# Altium integrated library UART Converter use MCP2200.IntLib: 20 symbols
Pins are listed as number, name and electrical type; pins without a type are passive.

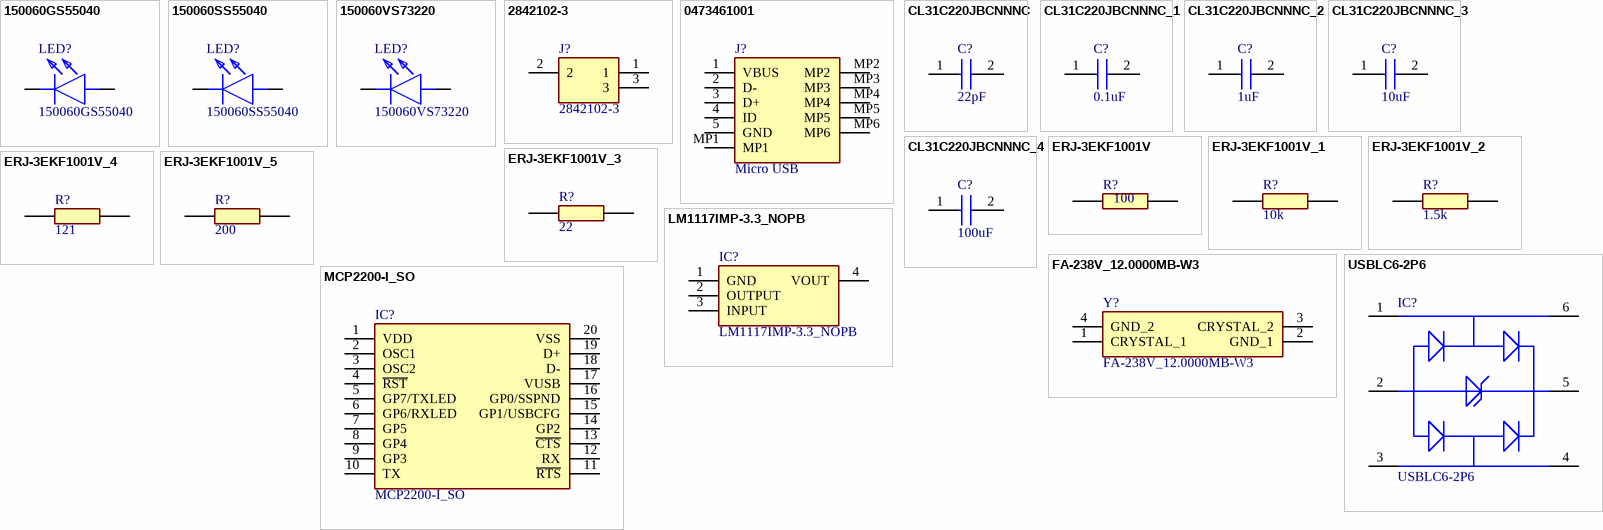
[diagram p0: symbols 150060GS55040 to USBLC6-2P6]

## 150060GS55040
designator LED?
LED; Manufacturer_Name: Wurth Elektronik; Datasheet Link: https://katalog.we-online.de/led/datasheet/150060GS55040.pdf; Height: 0.5mm; Manufacturer_Part_Number: 150060GS55040; Mouser Part Number: 710-150060GS55040; Mouser Price/Stock: https://www.mouser.co.uk/ProductDetail/Wurth-Elektronik/150060GS55040?qs=fAHHVMwC%252Bbhr5Aln2oA6Nw%3D%3D
footprint LEDC1608X50N
pins: 1 K, 2 A

## 150060SS55040
designator LED?
LED; Manufacturer_Name: Wurth Elektronik; Datasheet Link: https://www.mouser.com/datasheet/2/445/150060SS55040-1714139.pdf; Manufacturer_Part_Number: 150060SS55040; Mouser Part Number: 710-150060SS55040; Mouser Price/Stock: https://www.mouser.co.uk/ProductDetail/Wurth-Elektronik/150060SS55040?qs=8Aam6%252B7C6HG0AGgMR5PhFg%3D%3D
footprint 150060SS55040
footprint LEDC1608X50N
pins: 1 K, 2 A

## 150060VS73220
designator LED?
LED; Manufacturer_Name: Wurth Elektronik; Datasheet Link: https://componentsearchengine.com/Datasheets/2/150060VS73220.pdf; Manufacturer_Part_Number: 150060VS73220; Mouser Part Number: 710-150060VS73220; Mouser Price/Stock: https://www.mouser.co.uk/ProductDetail/Wurth-Elektronik/150060VS73220?qs=8Aam6%252B7C6HEF3HOqTkc72A%3D%3D
footprint 150060SS55040
footprint LEDC1608X50N
pins: 1 K, 2 A

## 2842102-3
designator J?
Connector; Manufacturer_Name: TE Connectivity; Datasheet Link: https://componentsearchengine.com/Datasheets/2/2842102-3.pdf; Height: 7.85mm; Manufacturer_Part_Number: 2842102-3; Mouser Part Number: 571-2842102-3; Mouser Price/Stock: https://www.mouser.co.uk/ProductDetail/TE-Connectivity/2842102-3?qs=Cb2nCFKsA8rGL40bBL%2F7Zw%3D%3D; Arrow Part Number: 2842102-3; Arrow Price/Stock: null?region=nac
footprint 28421023
pins: 1, 2, 3

## 0473461001
designator J?, comment Micro USB
Connector; Manufacturer_Name: Molex; Manufacturer_Part_Number: 0473461001; Datasheet Link: https://componentsearchengine.com/Datasheets/1/0473461001.pdf; Height: 2.45mm; Mouser Part Number: N/A; Mouser Price/Stock: https://www.mouser.co.uk/ProductDetail/Molex/0473461001?qs=2bnkQPT%252BPafTZgGVt%2FOGfA%3D%3D; Arrow Part Number: 0473461001; Arrow Price/Stock: https://www.arrow.com/en/products/0473461001/molex?region=nac
footprint 0473461001
pins: 1 VBUS, 2 D-, 3 D+, 4 ID, 5 GND, MP1, MP2, MP3, MP4, MP5, MP6

## CL31C220JBCNNNC
designator C?, comment 22pF
Capacitor; Manufacturer_Name: SAMSUNG; Manufacturer_Part_Number: CL31C220JBCNNNC; Datasheet Link: http://product.samsungsem.com/mlcc/CL31C220JBCNNN.do; Height: 1mm; Mouser Part Number: 187-CL31C220JBCNNNC; Mouser Price/Stock: https://www.mouser.co.uk/ProductDetail/Samsung-Electro-Mechanics/CL31C220JBCNNNC?qs=349EhDEZ59op%2FLhphPFLcA%3D%3D; Arrow Part Number: CL31C220JBCNNNC; Arrow Price/Stock: https://www.arrow.com/en/products/cl31c220jbcnnnc/samsung-electro-mechanics?region=nac
footprint CAPC3216X100N
pins: 1, 2

## CL31C220JBCNNNC_1
designator C?, comment 0.1uF
Capacitor; Manufacturer_Name: SAMSUNG; Manufacturer_Part_Number: CL31C220JBCNNNC; Datasheet Link: http://product.samsungsem.com/mlcc/CL31C220JBCNNN.do; Height: 1mm; Mouser Part Number: 187-CL31C220JBCNNNC; Mouser Price/Stock: https://www.mouser.co.uk/ProductDetail/Samsung-Electro-Mechanics/CL31C220JBCNNNC?qs=349EhDEZ59op%2FLhphPFLcA%3D%3D; Arrow Part Number: CL31C220JBCNNNC; Arrow Price/Stock: https://www.arrow.com/en/products/cl31c220jbcnnnc/samsung-electro-mechanics?region=nac
footprint CAPC3216X100N
pins: 1, 2

## CL31C220JBCNNNC_2
designator C?, comment 1uF
Capacitor; Manufacturer_Name: SAMSUNG; Manufacturer_Part_Number: CL31C220JBCNNNC; Datasheet Link: http://product.samsungsem.com/mlcc/CL31C220JBCNNN.do; Height: 1mm; Mouser Part Number: 187-CL31C220JBCNNNC; Mouser Price/Stock: https://www.mouser.co.uk/ProductDetail/Samsung-Electro-Mechanics/CL31C220JBCNNNC?qs=349EhDEZ59op%2FLhphPFLcA%3D%3D; Arrow Part Number: CL31C220JBCNNNC; Arrow Price/Stock: https://www.arrow.com/en/products/cl31c220jbcnnnc/samsung-electro-mechanics?region=nac
footprint CAPC3216X100N
pins: 1, 2

## CL31C220JBCNNNC_3
designator C?, comment 10uF
Capacitor; Manufacturer_Name: SAMSUNG; Manufacturer_Part_Number: CL31C220JBCNNNC; Datasheet Link: http://product.samsungsem.com/mlcc/CL31C220JBCNNN.do; Height: 1mm; Mouser Part Number: 187-CL31C220JBCNNNC; Mouser Price/Stock: https://www.mouser.co.uk/ProductDetail/Samsung-Electro-Mechanics/CL31C220JBCNNNC?qs=349EhDEZ59op%2FLhphPFLcA%3D%3D; Arrow Part Number: CL31C220JBCNNNC; Arrow Price/Stock: https://www.arrow.com/en/products/cl31c220jbcnnnc/samsung-electro-mechanics?region=nac
footprint CAPC3216X100N
pins: 1, 2

## CL31C220JBCNNNC_4
designator C?, comment 100uF
Capacitor; Manufacturer_Name: SAMSUNG; Manufacturer_Part_Number: CL31C220JBCNNNC; Datasheet Link: http://product.samsungsem.com/mlcc/CL31C220JBCNNN.do; Height: 1mm; Mouser Part Number: 187-CL31C220JBCNNNC; Mouser Price/Stock: https://www.mouser.co.uk/ProductDetail/Samsung-Electro-Mechanics/CL31C220JBCNNNC?qs=349EhDEZ59op%2FLhphPFLcA%3D%3D; Arrow Part Number: CL31C220JBCNNNC; Arrow Price/Stock: https://www.arrow.com/en/products/cl31c220jbcnnnc/samsung-electro-mechanics?region=nac
footprint CAPC3216X100N
pins: 1, 2

## ERJ-3EKF1001V
designator R?, comment 100
Resistor; Manufacturer_Name: Panasonic; Manufacturer_Part_Number: ERJ-3EKF1001V; Datasheet Link: http://industrial.panasonic.com/cdbs/www-data/pdf/RDA0000/AOA0000C86.pdf; Height: 0.55mm; Mouser Part Number: 667-ERJ-3EKF1001V; Mouser Price/Stock: https://www.mouser.co.uk/ProductDetail/Panasonic/ERJ-3EKF1001V?qs=H7k1u0Mp9JTM8yQxOuvoDg%3D%3D; Arrow Part Number: ERJ-3EKF1001V; Arrow Price/Stock: https://www.arrow.com/en/products/erj-3ekf1001v/panasonic?region=nac
footprint RESC1608X55N
pins: 1, 2

## ERJ-3EKF1001V_1
designator R?, comment 10k
Resistor; Manufacturer_Name: Panasonic; Manufacturer_Part_Number: ERJ-3EKF1001V; Datasheet Link: http://industrial.panasonic.com/cdbs/www-data/pdf/RDA0000/AOA0000C86.pdf; Height: 0.55mm; Mouser Part Number: 667-ERJ-3EKF1001V; Mouser Price/Stock: https://www.mouser.co.uk/ProductDetail/Panasonic/ERJ-3EKF1001V?qs=H7k1u0Mp9JTM8yQxOuvoDg%3D%3D; Arrow Part Number: ERJ-3EKF1001V; Arrow Price/Stock: https://www.arrow.com/en/products/erj-3ekf1001v/panasonic?region=nac
footprint RESC1608X55N
pins: 1, 2

## ERJ-3EKF1001V_2
designator R?, comment 1.5k
Resistor; Manufacturer_Name: Panasonic; Manufacturer_Part_Number: ERJ-3EKF1001V; Datasheet Link: http://industrial.panasonic.com/cdbs/www-data/pdf/RDA0000/AOA0000C86.pdf; Height: 0.55mm; Mouser Part Number: 667-ERJ-3EKF1001V; Mouser Price/Stock: https://www.mouser.co.uk/ProductDetail/Panasonic/ERJ-3EKF1001V?qs=H7k1u0Mp9JTM8yQxOuvoDg%3D%3D; Arrow Part Number: ERJ-3EKF1001V; Arrow Price/Stock: https://www.arrow.com/en/products/erj-3ekf1001v/panasonic?region=nac
footprint RESC1608X55N
pins: 1, 2

## ERJ-3EKF1001V_3
designator R?, comment 22
Resistor; Manufacturer_Name: Panasonic; Manufacturer_Part_Number: ERJ-3EKF1001V; Datasheet Link: http://industrial.panasonic.com/cdbs/www-data/pdf/RDA0000/AOA0000C86.pdf; Height: 0.55mm; Mouser Part Number: 667-ERJ-3EKF1001V; Mouser Price/Stock: https://www.mouser.co.uk/ProductDetail/Panasonic/ERJ-3EKF1001V?qs=H7k1u0Mp9JTM8yQxOuvoDg%3D%3D; Arrow Part Number: ERJ-3EKF1001V; Arrow Price/Stock: https://www.arrow.com/en/products/erj-3ekf1001v/panasonic?region=nac
footprint RESC1608X55N
pins: 1, 2

## ERJ-3EKF1001V_4
designator R?, comment 121
Resistor; Manufacturer_Name: Panasonic; Manufacturer_Part_Number: ERJ-3EKF1001V; Datasheet Link: http://industrial.panasonic.com/cdbs/www-data/pdf/RDA0000/AOA0000C86.pdf; Height: 0.55mm; Mouser Part Number: 667-ERJ-3EKF1001V; Mouser Price/Stock: https://www.mouser.co.uk/ProductDetail/Panasonic/ERJ-3EKF1001V?qs=H7k1u0Mp9JTM8yQxOuvoDg%3D%3D; Arrow Part Number: ERJ-3EKF1001V; Arrow Price/Stock: https://www.arrow.com/en/products/erj-3ekf1001v/panasonic?region=nac
footprint RESC1608X55N
pins: 1, 2

## ERJ-3EKF1001V_5
designator R?, comment 200
Resistor; Manufacturer_Name: Panasonic; Manufacturer_Part_Number: ERJ-3EKF1001V; Datasheet Link: http://industrial.panasonic.com/cdbs/www-data/pdf/RDA0000/AOA0000C86.pdf; Height: 0.55mm; Mouser Part Number: 667-ERJ-3EKF1001V; Mouser Price/Stock: https://www.mouser.co.uk/ProductDetail/Panasonic/ERJ-3EKF1001V?qs=H7k1u0Mp9JTM8yQxOuvoDg%3D%3D; Arrow Part Number: ERJ-3EKF1001V; Arrow Price/Stock: https://www.arrow.com/en/products/erj-3ekf1001v/panasonic?region=nac
footprint RESC1608X55N
pins: 1, 2

## FA-238V_12.0000MB-W3
designator Y?
Crystal or Oscillator; Manufacturer_Name: Epson Timing; Manufacturer_Part_Number: FA-238V 12.0000MB-W3; Datasheet Link: https://www.digikey.ph/en/products/detail/epson/FA-238V-12-0000MB-W3/2403375?s=N4IgTCBcDaIGIEEC0YDMAOAagAgIxgDoAGEogWQCEkB1VEAXQF8g; Mouser Part Number: 732-FA-238V12MB-W3; Mouser Price/Stock: https://www.mouser.co.uk/ProductDetail/Epson-Timing/FA-238V-12.0000MB-W3?qs=HV%2FSjD3ivR9sYuOPaMueQA%3D%3D; Arrow Part Number: FA-238V 12.0000MB-W3; Arrow Price/Stock: https://www.arrow.com/en/products/fa-238v12.0000mb-w3/epson-electronics-america?region=nac
footprint FA-238V
pins: 1 CRYSTAL_1, 2 GND_1, 3 CRYSTAL_2, 4 GND_2

## LM1117IMP-3.3_NOPB
designator IC?
Integrated Circuit; Manufacturer_Name: Texas Instruments; Manufacturer_Part_Number: LM1117IMP-3.3/NOPB; Datasheet Link: https://www.ti.com/lit/ds/symlink/lm1117.pdf?ts=1607578196475&ref_url=https%253A%252F%252Fwww.google.com%252F; Height: 1.8mm; Mouser Part Number: 926-LM1117IMP3.3NOPB; Mouser Price/Stock: https://www.mouser.co.uk/ProductDetail/Texas-Instruments/LM1117IMP-3.3-NOPB?qs=X1J7HmVL2ZFbpN1TgOsjYQ%3D%3D; Arrow Part Number: LM1117IMP-3.3/NOPB; Arrow Price/Stock: https://www.arrow.com/en/products/lm1117imp-3.3nopb/texas-instruments?utm_currency=USD&region=nac
footprint SOT230P700X180-4N
footprint Model Name (Footprint not found)
footprint SOT229P700X180-4N
pins: 1 GND, 2 OUTPUT, 3 INPUT, 4 VOUT

## MCP2200-I_SO
designator IC?
Integrated Circuit; Manufacturer_Name: Microchip; Manufacturer_Part_Number: MCP2200-I/SO; Datasheet Link: https://datasheet.datasheetarchive.com/originals/distributors/Datasheets-DGA2/214544.pdf; Height: 2.65mm; Mouser Part Number: 579-MCP2200-I/SO; Mouser Price/Stock: https://www.mouser.co.uk/ProductDetail/Microchip-Technology/MCP2200-I-SO?qs=kI7nsUnms46fN8L9VZlJCA%3D%3D; Arrow Part Number: MCP2200-I/SO; Arrow Price/Stock: https://www.arrow.com/en/products/mcp2200-iso/microchip-technology?region=nac
footprint SOIC127P1030X265-20N
pins: 1 VDD, 2 OSC1, 3 OSC2, 4 ~{RST}, 5 GP7/TXLED, 6 GP6/RXLED, 7 GP5, 8 GP4, 9 GP3, 10 TX, 11 ~{RTS}, 12 RX, 13 ~{CTS}, 14 GP2, 15 GP1/USBCFG, 16 GP0/SSPND, 17 VUSB, 18 D-, 19 D+, 20 VSS

## USBLC6-2P6
designator IC?
Integrated Circuit; Manufacturer_Name: STMicroelectronics; Datasheet Link: https://datasheet.lcsc.com/szlcsc/STMicroelectronics-USBLC6-2P6_C15999.pdf; Height: 0.6mm; Manufacturer_Part_Number: USBLC6-2P6; Mouser Part Number: 511-USBLC6-2P6; Mouser Price/Stock: https://www.mouser.co.uk/ProductDetail/STMicroelectronics/USBLC6-2P6?qs=6ARB0lp6jlViGcbUSvj1Mw%3D%3D; Arrow Part Number: USBLC6-2P6; Arrow Price/Stock: https://www.arrow.com/en/products/usblc6-2p6/stmicroelectronics?utm_currency=USD&region=nac
footprint USBLC62P6
pins: 1 I/O1_1, 2 GND, 3 I/O2_1, 4 I/O2_2, 5 VBUS, 6 I/O1_2